# Altium schematic symbol library RF_GPS.SchLib: 25 symbols
Pins are listed as number, name and electrical type; pins without a type are passive.

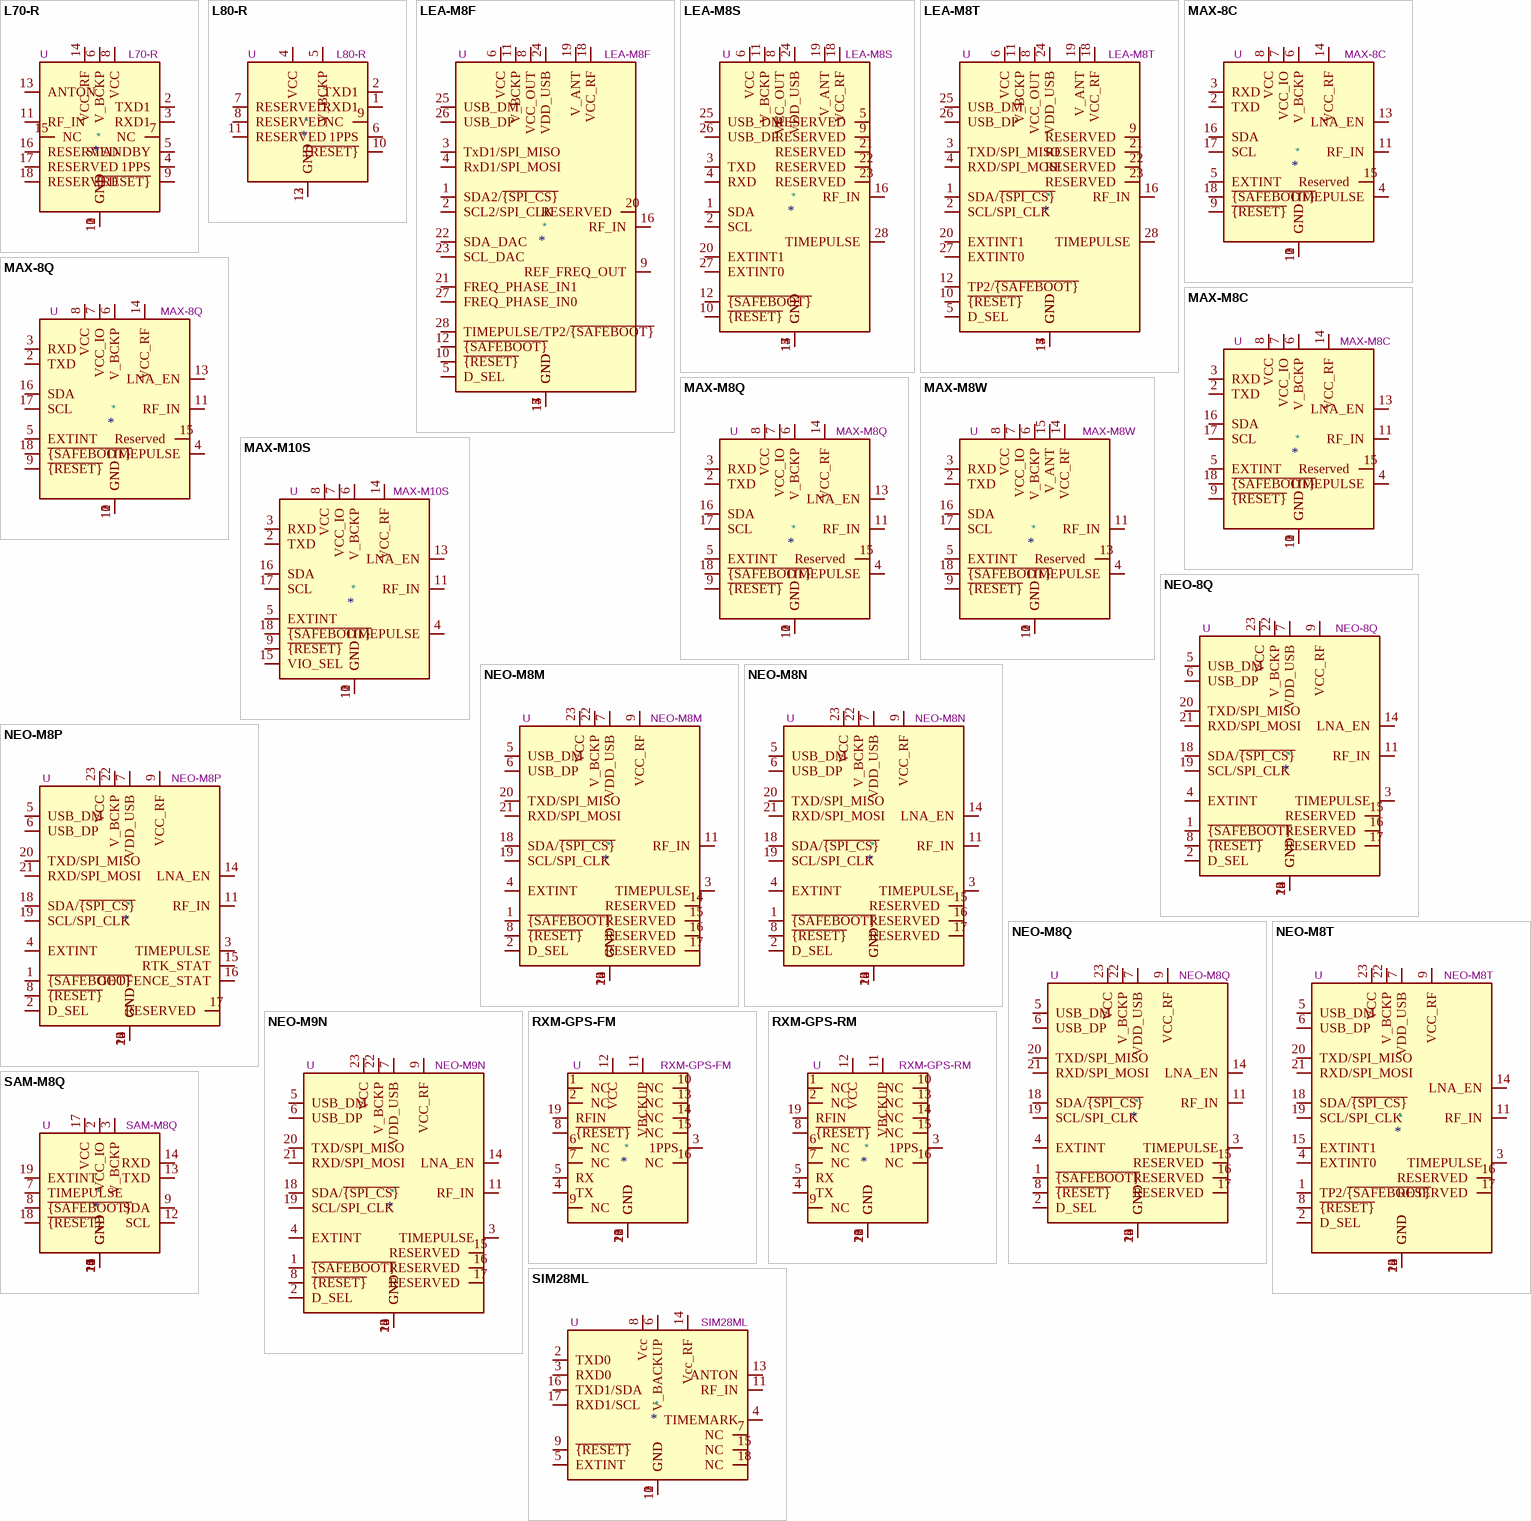
[diagram p0: symbols L70-R to SIM28ML]

## L70-R
designator *  value L70-R  Reference: U
Quectel GPS Module; ki_keywords: quectel GPS GNSS module; ki_fp_filters: Quectel*L70*R*; Footprint: RF_GPS:Quectel_L70-R; Datasheet: https://www.quectel.com/product/gps-only-l70-r; Description_: Quectel GPS Module
pins: 1 GND, 2 TXD1, 3 RXD1, 4 1PPS, 5 STANDBY, 6 V_BCKP, 7 NC, 8 VCC, 9 ~{{RESET}}, 10 GND, 11 RF_IN, 12 GND, 13 ANTON, 14 VCC_RF, 15 NC, 16 RESERVED, 17 RESERVED, 18 RESERVED

## L80-R
designator *  value L80-R  Reference: U
Quectel GPS Module; ki_keywords: quectel GPS GNSS module; ki_fp_filters: Quectel*L80*R*; Footprint: RF_GPS:Quectel_L80-R; Datasheet: https://www.quectel.com/UploadImage/Downlad/Quectel_L80-R_Hardware_Design_V1.2.pdf; Description_: Quectel GPS Module
pins: 1 RXD1, 2 TXD1, 3 GND, 4 VCC, 5 V_BCKP, 6 1PPS, 7 RESERVED, 8 RESERVED, 9 NC, 10 ~{{RESET}}, 11 RESERVED, 12 GND

## LEA-M8F
designator *  value LEA-M8F  Reference: U
GNSS Module LEA M8, VCC 3V to 3.6V; ki_keywords: ublox GPS GNSS module; ki_fp_filters: ublox*LEA*; Footprint: RF_GPS:ublox_LEA; Datasheet: https://www.u-blox.com/sites/default/files/products/documents/LEA-M8F_DataSheet_%28UBX-14001772%29.pdf; Description_: GNSS Module LEA M8, VCC 3V to 3.6V
pins: 1 SDA2/~{{SPI_CS}}, 2 SCL2/SPI_CLK, 3 TxD1/SPI_MISO, 4 RxD1/SPI_MOSI, 5 D_SEL, 6 VCC, 7 GND, 8 VCC_OUT, 9 REF_FREQ_OUT, 10 ~{{RESET}}, 11 V_BCKP, 12 ~{{SAFEBOOT}}, 13 GND, 14 GND, 15 GND, 16 RF_IN, 17 GND, 18 VCC_RF, 19 V_ANT, 20 RESERVED, 21 FREQ_PHASE_IN1, 22 SDA_DAC, 23 SCL_DAC, 24 VDD_USB, 25 USB_DM, 26 USB_DP, 27 FREQ_PHASE_IN0, 28 TIMEPULSE/TP2/~{{SAFEBOOT}}

## LEA-M8S
designator *  value LEA-M8S  Reference: U
GNSS Module LEA M8, VCC 2.7V to 3.6V; ki_keywords: ublox GPS GNSS module; ki_fp_filters: ublox*LEA*; Footprint: RF_GPS:ublox_LEA; Datasheet: https://www.u-blox.com/sites/default/files/LEA-M8S-FW3_DataSheet_%28UBX-16010205%29.pdf; Description_: GNSS Module LEA M8, VCC 2.7V to 3.6V
pins: 1 SDA, 2 SCL, 3 TXD, 4 RXD, 5 RESERVED, 6 VCC, 7 GND, 8 VCC_OUT, 9 RESERVED, 10 ~{{RESET}}, 11 V_BCKP, 12 ~{{SAFEBOOT}}, 13 GND, 14 GND, 15 GND, 16 RF_IN, 17 GND, 18 VCC_RF, 19 V_ANT, 20 EXTINT1, 21 RESERVED, 22 RESERVED, 23 RESERVED, 24 VDD_USB, 25 USB_DM, 26 USB_DP, 27 EXTINT0, 28 TIMEPULSE

## LEA-M8T
designator *  value LEA-M8T  Reference: U
GNSS Module LEA M8, VCC 2.7V to 3.6V; ki_keywords: ublox GPS GNSS module; ki_fp_filters: ublox*LEA*; Footprint: RF_GPS:ublox_LEA; Datasheet: https://content.u-blox.com/sites/default/files/documents/NEO-LEA-M8T-FW3_DataSheet_UBX-15025193.pdf; Description_: GNSS Module LEA M8, VCC 2.7V to 3.6V
pins: 1 SDA/~{{SPI_CS}}, 2 SCL/SPI_CLK, 3 TXD/SPI_MISO, 4 RXD/SPI_MOSI, 5 D_SEL, 6 VCC, 7 GND, 8 VCC_OUT, 9 RESERVED, 10 ~{{RESET}}, 11 V_BCKP, 12 TP2/~{{SAFEBOOT}}, 13 GND, 14 GND, 15 GND, 16 RF_IN, 17 GND, 18 VCC_RF, 19 V_ANT, 20 EXTINT1, 21 RESERVED, 22 RESERVED, 23 RESERVED, 24 VDD_USB, 25 USB_DM, 26 USB_DP, 27 EXTINT0, 28 TIMEPULSE

## MAX-8C
designator *  value MAX-8C  Reference: U
GNSS Module MAX M8, VCC 1.65V to 3.6V; ki_keywords: ublox GPS GNSS module; ki_fp_filters: ublox*MAX*; Footprint: RF_GPS:ublox_MAX; Datasheet: https://www.u-blox.com/sites/default/files/MAX-8_DataSheet_%28UBX-16000093%29.pdf; Description_: GNSS Module MAX M8, VCC 1.65V to 3.6V
pins: 1 GND, 2 TXD, 3 RXD, 4 TIMEPULSE, 5 EXTINT, 6 V_BCKP, 7 VCC_IO, 8 VCC, 9 ~{{RESET}}, 10 GND, 11 RF_IN, 12 GND, 13 LNA_EN, 14 VCC_RF, 15 Reserved, 16 SDA, 17 SCL, 18 ~{{SAFEBOOT}}

## MAX-8Q
designator *  value MAX-8Q  Reference: U
GNSS Module M8, VCC 2.7V to 3.6V; ki_keywords: ublox GPS GNSS module; ki_fp_filters: ublox*MAX*; Footprint: RF_GPS:ublox_MAX; Datasheet: https://www.u-blox.com/sites/default/files/MAX-8_DataSheet_%28UBX-16000093%29.pdf; Description_: GNSS Module M8, VCC 2.7V to 3.6V
pins: 1 GND, 2 TXD, 3 RXD, 4 TIMEPULSE, 5 EXTINT, 6 V_BCKP, 7 VCC_IO, 8 VCC, 9 ~{{RESET}}, 10 GND, 11 RF_IN, 12 GND, 13 LNA_EN, 14 VCC_RF, 15 Reserved, 16 SDA, 17 SCL, 18 ~{{SAFEBOOT}}

## MAX-M8C
designator *  value MAX-M8C  Reference: U
GNSS Module MAX M8, VCC 1.65V to 3.6V; ki_keywords: ublox GPS GNSS module; ki_fp_filters: ublox*MAX*; Footprint: RF_GPS:ublox_MAX; Datasheet: https://www.u-blox.com/sites/default/files/MAX-M8-FW3_DataSheet_%28UBX-15031506%29.pdf; Description_: GNSS Module MAX M8, VCC 1.65V to 3.6V
pins: 1 GND, 2 TXD, 3 RXD, 4 TIMEPULSE, 5 EXTINT, 6 V_BCKP, 7 VCC_IO, 8 VCC, 9 ~{{RESET}}, 10 GND, 11 RF_IN, 12 GND, 13 LNA_EN, 14 VCC_RF, 15 Reserved, 16 SDA, 17 SCL, 18 ~{{SAFEBOOT}}

## MAX-M8Q
designator *  value MAX-M8Q  Reference: U
GNSS Module MAX M8, VCC 2.7V to 3.6V; ki_keywords: ublox GPS GNSS module; ki_fp_filters: ublox*MAX*; Footprint: RF_GPS:ublox_MAX; Datasheet: https://www.u-blox.com/sites/default/files/MAX-M8-FW3_DataSheet_%28UBX-15031506%29.pdf; Description_: GNSS Module MAX M8, VCC 2.7V to 3.6V
pins: 1 GND, 2 TXD, 3 RXD, 4 TIMEPULSE, 5 EXTINT, 6 V_BCKP, 7 VCC_IO, 8 VCC, 9 ~{{RESET}}, 10 GND, 11 RF_IN, 12 GND, 13 LNA_EN, 14 VCC_RF, 15 Reserved, 16 SDA, 17 SCL, 18 ~{{SAFEBOOT}}

## MAX-M8W
designator *  value MAX-M8W  Reference: U
GNSS Module MAX M8, VCC 2.7V to 3.6V; ki_keywords: ublox GPS GNSS module; ki_fp_filters: ublox*MAX*; Footprint: RF_GPS:ublox_MAX; Datasheet: https://www.u-blox.com/sites/default/files/MAX-M8-FW3_DataSheet_%28UBX-15031506%29.pdf; Description_: GNSS Module MAX M8, VCC 2.7V to 3.6V
pins: 1 GND, 2 TXD, 3 RXD, 4 TIMEPULSE, 5 EXTINT, 6 V_BCKP, 7 VCC_IO, 8 VCC, 9 ~{{RESET}}, 10 GND, 11 RF_IN, 12 GND, 13 Reserved, 14 VCC_RF, 15 V_ANT, 16 SDA, 17 SCL, 18 ~{{SAFEBOOT}}

## MAX-M10S
designator *  value MAX-M10S  Reference: U
GNSS Module MAX M10, VCC 1.65V to 3.6V; ki_keywords: ublox GPS GNSS module; ki_fp_filters: ublox?MAX*; Footprint: RF_GPS:ublox_MAX; Datasheet: https://content.u-blox.com/sites/default/files/MAX-M10S_DataSheet_UBX-20035208.pdf; Description_: GNSS Module MAX M10, VCC 1.65V to 3.6V
pins: 1 GND, 2 TXD, 3 RXD, 4 TIMEPULSE, 5 EXTINT, 6 V_BCKP, 7 VCC_IO, 8 VCC, 9 ~{{RESET}}, 10 GND, 11 RF_IN, 12 GND, 13 LNA_EN, 14 VCC_RF, 15 VIO_SEL, 16 SDA, 17 SCL, 18 ~{{SAFEBOOT}}

## NEO-8Q
designator *  value NEO-8Q  Reference: U
GNSS Module NEO 8, VCC 1.65V to 3.6V; ki_keywords: ublox GPS GNSS module; ki_fp_filters: ublox*NEO*; Footprint: RF_GPS:ublox_NEO; Datasheet: https://content.u-blox.com/sites/default/files/documents/NEO-8Q_DataSheet_UBX-15031913.pdf; Description_: GNSS Module NEO 8, VCC 1.65V to 3.6V
pins: 1 ~{{SAFEBOOT}}, 2 D_SEL, 3 TIMEPULSE, 4 EXTINT, 5 USB_DM, 6 USB_DP, 7 VDD_USB, 8 ~{{RESET}}, 9 VCC_RF, 10 GND, 11 RF_IN, 12 GND, 13 GND, 14 LNA_EN, 15 RESERVED, 16 RESERVED, 17 RESERVED, 18 SDA/~{{SPI_CS}}, 19 SCL/SPI_CLK, 20 TXD/SPI_MISO, 21 RXD/SPI_MOSI, 22 V_BCKP, 23 VCC, 24 GND

## NEO-M8M
designator *  value NEO-M8M  Reference: U
GNSS Module NEO M8, VCC 2.7V to 3.6V; ki_keywords: ublox GPS GNSS module; ki_fp_filters: ublox*NEO*; Footprint: RF_GPS:ublox_NEO; Datasheet: https://content.u-blox.com/sites/default/files/NEO-M8-FW3_DataSheet_UBX-15031086.pdf; Description_: GNSS Module NEO M8, VCC 2.7V to 3.6V
pins: 1 ~{{SAFEBOOT}}, 2 D_SEL, 3 TIMEPULSE, 4 EXTINT, 5 USB_DM, 6 USB_DP, 7 VDD_USB, 8 ~{{RESET}}, 9 VCC_RF, 10 GND, 11 RF_IN, 12 GND, 13 GND, 14 RESERVED, 15 RESERVED, 16 RESERVED, 17 RESERVED, 18 SDA/~{{SPI_CS}}, 19 SCL/SPI_CLK, 20 TXD/SPI_MISO, 21 RXD/SPI_MOSI, 22 V_BCKP, 23 VCC, 24 GND

## NEO-M8N
designator *  value NEO-M8N  Reference: U
GNSS Module NEO M8, VCC 2.7V to 3.6V; ki_keywords: ublox GPS GNSS module; ki_fp_filters: ublox*NEO*; Footprint: RF_GPS:ublox_NEO; Datasheet: https://content.u-blox.com/sites/default/files/NEO-M8-FW3_DataSheet_UBX-15031086.pdf; Description_: GNSS Module NEO M8, VCC 2.7V to 3.6V
pins: 1 ~{{SAFEBOOT}}, 2 D_SEL, 3 TIMEPULSE, 4 EXTINT, 5 USB_DM, 6 USB_DP, 7 VDD_USB, 8 ~{{RESET}}, 9 VCC_RF, 10 GND, 11 RF_IN, 12 GND, 13 GND, 14 LNA_EN, 15 RESERVED, 16 RESERVED, 17 RESERVED, 18 SDA/~{{SPI_CS}}, 19 SCL/SPI_CLK, 20 TXD/SPI_MISO, 21 RXD/SPI_MOSI, 22 V_BCKP, 23 VCC, 24 GND

## NEO-M8P
designator *  value NEO-M8P  Reference: U
GNSS RTK Module NEO M8, VCC 2.7V to 3.6V; ki_keywords: ublox GPS GNSS RTK module; ki_fp_filters: ublox*NEO*; Footprint: RF_GPS:ublox_NEO; Datasheet: https://content.u-blox.com/sites/default/files/NEO-M8P_DataSheet_UBX-15016656.pdf; Description_: GNSS RTK Module NEO M8, VCC 2.7V to 3.6V
pins: 1 ~{{SAFEBOOT}}, 2 D_SEL, 3 TIMEPULSE, 4 EXTINT, 5 USB_DM, 6 USB_DP, 7 VDD_USB, 8 ~{{RESET}}, 9 VCC_RF, 10 GND, 11 RF_IN, 12 GND, 13 GND, 14 LNA_EN, 15 RTK_STAT, 16 GEOFENCE_STAT, 17 RESERVED, 18 SDA/~{{SPI_CS}}, 19 SCL/SPI_CLK, 20 TXD/SPI_MISO, 21 RXD/SPI_MOSI, 22 V_BCKP, 23 VCC, 24 GND

## NEO-M8Q
designator *  value NEO-M8Q  Reference: U
GNSS Module NEO M8, VCC 2.7V to 3.6V; ki_keywords: ublox GPS GNSS module; ki_fp_filters: ublox*NEO*; Footprint: RF_GPS:ublox_NEO; Datasheet: https://content.u-blox.com/sites/default/files/NEO-M8-FW3_DataSheet_UBX-15031086.pdf; Description_: GNSS Module NEO M8, VCC 2.7V to 3.6V
pins: 1 ~{{SAFEBOOT}}, 2 D_SEL, 3 TIMEPULSE, 4 EXTINT, 5 USB_DM, 6 USB_DP, 7 VDD_USB, 8 ~{{RESET}}, 9 VCC_RF, 10 GND, 11 RF_IN, 12 GND, 13 GND, 14 LNA_EN, 15 RESERVED, 16 RESERVED, 17 RESERVED, 18 SDA/~{{SPI_CS}}, 19 SCL/SPI_CLK, 20 TXD/SPI_MISO, 21 RXD/SPI_MOSI, 22 V_BCKP, 23 VCC, 24 GND

## NEO-M8T
designator *  value NEO-M8T  Reference: U
GNSS Module NEO M8, VCC 2.7V to 3.6V; ki_keywords: ublox GPS GNSS module; ki_fp_filters: ublox*NEO*; Footprint: RF_GPS:ublox_NEO; Datasheet: https://content.u-blox.com/sites/default/files/documents/NEO-LEA-M8T-FW3_DataSheet_UBX-15025193.pdf; Description_: GNSS Module NEO M8, VCC 2.7V to 3.6V
pins: 1 TP2/~{{SAFEBOOT}}, 2 D_SEL, 3 TIMEPULSE, 4 EXTINT0, 5 USB_DM, 6 USB_DP, 7 VDD_USB, 8 ~{{RESET}}, 9 VCC_RF, 10 GND, 11 RF_IN, 12 GND, 13 GND, 14 LNA_EN, 15 EXTINT1, 16 RESERVED, 17 RESERVED, 18 SDA/~{{SPI_CS}}, 19 SCL/SPI_CLK, 20 TXD/SPI_MISO, 21 RXD/SPI_MOSI, 22 V_BCKP, 23 VCC, 24 GND

## NEO-M9N
designator *  value NEO-M9N  Reference: U
GNSS Module NEO M8, VCC 2.7V to 3.6V; ki_keywords: ublox GPS GNSS module; ki_fp_filters: ublox*NEO*; Footprint: RF_GPS:ublox_NEO; Datasheet: https://www.u-blox.com/sites/default/files/NEO-M9N-00B_DataSheet_UBX-19014285.pdf; Description_: GNSS Module NEO M8, VCC 2.7V to 3.6V
pins: 1 ~{{SAFEBOOT}}, 2 D_SEL, 3 TIMEPULSE, 4 EXTINT, 5 USB_DM, 6 USB_DP, 7 VDD_USB, 8 ~{{RESET}}, 9 VCC_RF, 10 GND, 11 RF_IN, 12 GND, 13 GND, 14 LNA_EN, 15 RESERVED, 16 RESERVED, 17 RESERVED, 18 SDA/~{{SPI_CS}}, 19 SCL/SPI_CLK, 20 TXD/SPI_MISO, 21 RXD/SPI_MOSI, 22 V_BCKP, 23 VCC, 24 GND

## RXM-GPS-FM
designator *  value RXM-GPS-FM  Reference: U
Module GPS Low Power, 14mA tracking, 22 channels; ki_keywords: gps low-power; ki_fp_filters: Linx*RXM?GPS*; Footprint: RF_GPS:Linx_RXM-GPS; Datasheet: https://linxtechnologies.com/wp/wp-content/uploads/rxm-gps-fm.pdf; Description_: Module GPS Low Power, 14mA tracking, 22 channels
pins: 1 NC, 2 NC, 3 1PPS, 4 TX, 5 RX, 6 NC, 7 NC, 8 ~{{RESET}}, 9 NC, 10 NC, 11 VBCKUP, 12 VCC, 13 NC, 14 NC, 15 NC, 16 NC, 18 GND, 19 RFIN, 20 GND, 21 GND, 22 GND

## RXM-GPS-RM
designator *  value RXM-GPS-RM  Reference: U
Module GPS Low Power, 14mA tracking, 22 channels; ki_keywords: gps low-power; ki_fp_filters: Linx*RXM?GPS*; Footprint: RF_GPS:Linx_RXM-GPS; Datasheet: https://linxtechnologies.com/wp/wp-content/uploads/rxm-gps-rm.pdf; Description_: Module GPS Low Power, 14mA tracking, 22 channels
pins: 1 NC, 2 NC, 3 1PPS, 4 TX, 5 RX, 6 NC, 7 NC, 8 ~{{RESET}}, 9 NC, 10 NC, 11 VBCKUP, 12 VCC, 13 NC, 14 NC, 15 NC, 16 NC, 18 GND, 19 RFIN, 20 GND, 21 GND, 22 GND

## SAM-M8Q
designator *  value SAM-M8Q  Reference: U
GPS ublox M8 variant; ki_keywords: gps module with antenna; ki_fp_filters: ublox*SAM?M8Q*; Footprint: RF_GPS:ublox_SAM-M8Q; Datasheet: https://www.u-blox.com/sites/default/files/SAM-M8Q_DataSheet_%28UBX-16012619%29.pdf; Description_: GPS ublox M8 variant
pins: 1 GND, 2 VCC_IO, 3 V_BCKP, 4 GND, 5 GND, 6 GND, 7 TIMEPULSE, 8 ~{{SAFEBOOT}}, 9 SDA, 10 GND, 11 GND, 12 SCL, 13 TXD, 14 RXD, 15 GND, 16 GND, 17 VCC, 18 ~{{RESET}}, 19 EXTINT, 20 GND

## SIM28ML
designator *  value SIM28ML  Reference: U
Standalone GPS/A-GPS receiver module, built-in LNA, -165dBm sensitivity, 2.8-4.3V, SMD; ki_keywords: GPS A-GPS receiver; ki_fp_filters: SIM28ML*; Footprint: RF_GPS:SIM28ML; Datasheet: https://simcom.ee/documents/SIM28ML/SIM28ML_Hardware%20Design_V1.01.pdf; Description_: Standalone GPS/A-GPS receiver module, built-in LNA, -165dBm sensitivity, 2.8-4.3V, SMD
pins: 1 GND, 2 TXD0, 3 RXD0, 4 TIMEMARK, 5 EXTINT, 6 V_BACKUP, 7 NC, 8 Vcc, 9 ~{{RESET}}, 10 GND, 11 RF_IN, 12 GND, 13 ANTON, 14 Vcc_RF, 15 NC, 16 TXD1/SDA, 17 RXD1/SCL, 18 NC

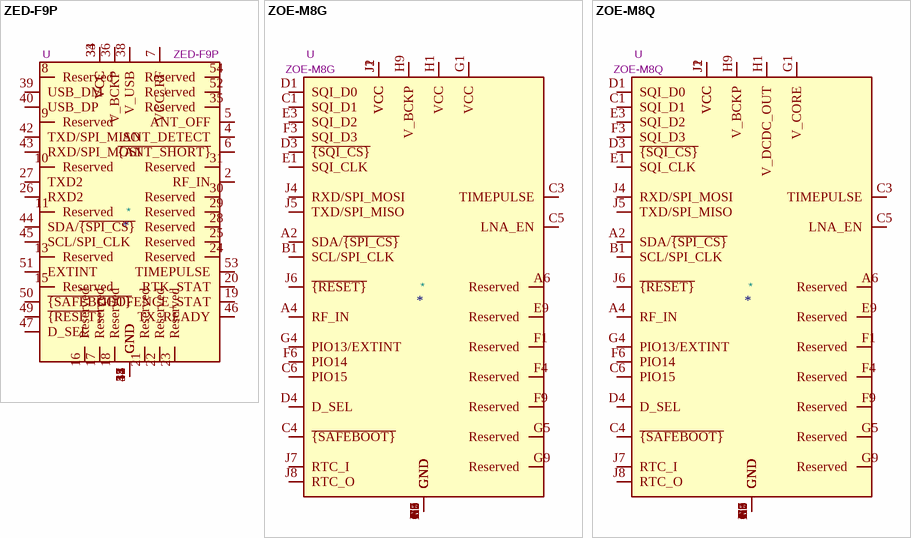
[diagram p1: symbols ZED-F9P to ZOE-M8Q]

## ZED-F9P
designator *  value ZED-F9P  Reference: U
GNSS Module ZED F9, VCC 2.7V to 3.6V, LGA-54; ki_keywords: u-blox GNSS multi-band RTK; ki_fp_filters: ublox*ZED*; Footprint: RF_GPS:ublox_ZED; Datasheet: https://content.u-blox.com/sites/default/files/ZED-F9P-04B_DataSheet_UBX-21044850.pdf; Description_: GNSS Module ZED F9, VCC 2.7V to 3.6V, LGA-54
pins: 1 GND, 2 RF_IN, 3 GND, 4 ANT_DETECT, 5 ANT_OFF, 6 ~{{ANT_SHORT}}, 7 VCC_RF, 8 Reserved, 9 Reserved, 10 Reserved, 11 Reserved, 12 GND, 13 Reserved, 14 GND, 15 Reserved, 16 Reserved, 17 Reserved, 18 Reserved, 19 GEOFENCE_STAT, 20 RTK_STAT, 21 Reserved, 22 Reserved, 23 Reserved, 24 Reserved, 25 Reserved, 26 RXD2, 27 TXD2, 28 Reserved, 29 Reserved, 30 Reserved, 31 Reserved, 32 GND, 33 VCC, 34 VCC, 35 Reserved, 36 V_BCKP, 37 GND, 38 V_USB, 39 USB_DM, 40 USB_DP, 41 GND, 42 TXD/SPI_MISO, 43 RXD/SPI_MOSI, 44 SDA/~{{SPI_CS}}, 45 SCL/SPI_CLK, 46 TX_READY, 47 D_SEL, 48 GND, 49 ~{{RESET}}, 50 ~{{SAFEBOOT}}, 51 EXTINT, 52 Reserved, 53 TIMEPULSE, 54 Reserved, 55 GND

## ZOE-M8G
designator *  value ZOE-M8G  Reference: U
ultra small GNSS  module IC, SiP; ki_keywords: ublox gnss sip; ki_fp_filters: ublox*ZOE*M8*; Footprint: RF_GPS:ublox_ZOE_M8; Datasheet: https://content.u-blox.com/sites/default/files/ZOE-M8_HIM_UBX-16030136.pdf; Description_: ultra small GNSS  module IC, SiP
pins: A1 GND, A2 SDA/~{{SPI_CS}}, A3 GND, A4 RF_IN, A5 GND, A6 Reserved, A7 GND, A8 GND, A9 GND, B1 SCL/SPI_CLK, B9 GND, C1 SQI_D1, C3 TIMEPULSE, C4 ~{{SAFEBOOT}}, C5 LNA_EN, C6 PIO15, C7 GND, C9 GND, D1 SQI_D0, D3 ~{{SQI_CS}}, D4 D_SEL, D6 GND, D9 GND, E1 SQI_CLK, E3 SQI_D2, E7 GND, E9 Reserved, F1 Reserved, F3 SQI_D3, F4 Reserved, F6 PIO14, F7 GND, F9 Reserved, G1 VCC, G3 GND, G4 PIO13/EXTINT, G5 Reserved, G6 GND, G7 GND, G9 Reserved, H1 VCC, H9 V_BCKP, J1 VCC, J2 VCC, J3 GND, J4 RXD/SPI_MOSI, J5 TXD/SPI_MISO, J6 ~{{RESET}}, J7 RTC_I, J8 RTC_O, J9 GND

## ZOE-M8Q
designator *  value ZOE-M8Q  Reference: U
ultra small GNSS  module IC, SiP; ki_keywords: ublox gnss sip; ki_fp_filters: ublox*ZOE*M8*; Footprint: RF_GPS:ublox_ZOE_M8; Datasheet: https://content.u-blox.com/sites/default/files/ZOE-M8_HIM_UBX-16030136.pdf; Description_: ultra small GNSS  module IC, SiP
pins: A1 GND, A2 SDA/~{{SPI_CS}}, A3 GND, A4 RF_IN, A5 GND, A6 Reserved, A7 GND, A8 GND, A9 GND, B1 SCL/SPI_CLK, B9 GND, C1 SQI_D1, C3 TIMEPULSE, C4 ~{{SAFEBOOT}}, C5 LNA_EN, C6 PIO15, C7 GND, C9 GND, D1 SQI_D0, D3 ~{{SQI_CS}}, D4 D_SEL, D6 GND, D9 GND, E1 SQI_CLK, E3 SQI_D2, E7 GND, E9 Reserved, F1 Reserved, F3 SQI_D3, F4 Reserved, F6 PIO14, F7 GND, F9 Reserved, G1 V_CORE, G3 GND, G4 PIO13/EXTINT, G5 Reserved, G6 GND, G7 GND, G9 Reserved, H1 V_DCDC_OUT, H9 V_BCKP, J1 VCC, J2 VCC, J3 GND, J4 RXD/SPI_MOSI, J5 TXD/SPI_MISO, J6 ~{{RESET}}, J7 RTC_I, J8 RTC_O, J9 GND